# Altium integrated library Celestial Library.IntLib: 439 symbols (part 19 of 20)

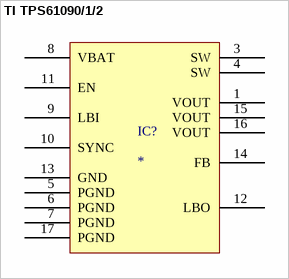
[diagram p414: symbol TI TPS61090/1/2]

## TI TPS61090/1/2
designator IC?
pins: 1 VOUT, 3 SW, 4 SW, 5 PGND, 6 PGND, 7 PGND, 8 VBAT, 9 LBI, 10 SYNC, 11 EN, 12 LBO, 13 GND, 14 FB, 15 VOUT, 16 VOUT, 17 PGND


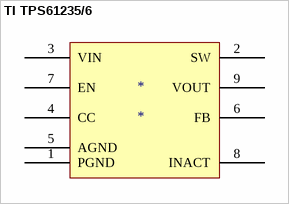
[diagram p415: symbol TI TPS61235/6]

## TI TPS61235/6
designator *
pins: 1 PGND, 2 SW, 3 VIN, 4 CC, 5 AGND, 6 FB, 7 EN, 8 INACT, 9 VOUT


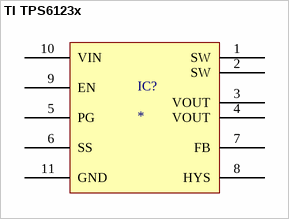
[diagram p416: symbol TI TPS6123x]

## TI TPS6123x
designator IC?
pins: 1 SW, 2 SW, 3 VOUT, 4 VOUT, 5 PG, 6 SS, 7 FB, 8 HYS, 9 EN, 10 VIN, 11 GND


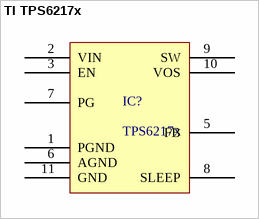
[diagram p417: symbol TI TPS6217x]

## TI TPS6217x
designator IC?, comment TPS6217x
pins: 1 PGND, 2 VIN, 3 EN, 5 FB, 6 AGND, 7 PG, 8 SLEEP, 9 SW, 10 VOS, 11 GND


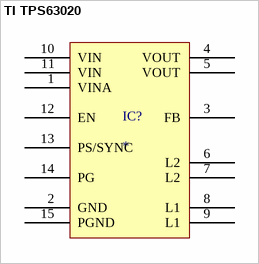
[diagram p418: symbol TI TPS63020]

## TI TPS63020
designator IC?
pins: 1 VINA, 2 GND, 3 FB, 4 VOUT, 5 VOUT, 6 L2, 7 L2, 8 L1, 9 L1, 10 VIN, 11 VIN, 12 EN, 13 PS/SYNC, 14 PG, 15 PGND


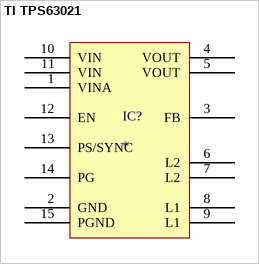
[diagram p419: symbol TI TPS63021]

## TI TPS63021
designator IC?
pins: 1 VINA, 2 GND, 3 FB, 4 VOUT, 5 VOUT, 6 L2, 7 L2, 8 L1, 9 L1, 10 VIN, 11 VIN, 12 EN, 13 PS/SYNC, 14 PG, 15 PGND


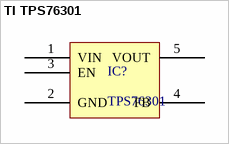
[diagram p420: symbol TI TPS76301]

## TI TPS76301
designator IC?, comment TPS76301
150mA Low-Dropout Regulator
pins: 1 VIN "Desc1", 2 GND "Desc1", 3 EN "Desc1", 4 FB "Desc1", 5 VOUT "Desc1"


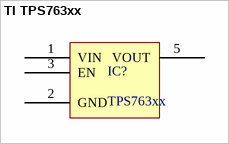
[diagram p421: symbol TI TPS763xx]

## TI TPS763xx
designator IC?, comment TPS763xx
150mA Low-Dropout Regulator
pins: 1 VIN "Desc1", 2 GND "Desc1", 3 EN "Desc1", 5 VOUT "Desc1"


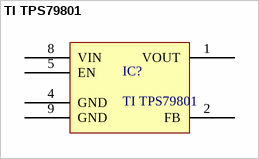
[diagram p422: symbol TI TPS79801]

## TI TPS79801
designator IC?
50 mA, 3 V TO 50 V, MICROPOWER, LOW-DROPOUT LINEAR REGULATOR
pins: 1 VOUT, 2 FB, 4 GND, 5 EN, 8 VIN, 9 GND


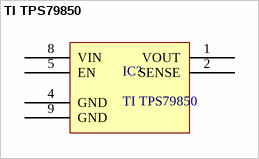
[diagram p423: symbol TI TPS79850]

## TI TPS79850
designator IC?
50 mA, 3 V TO 50 V, MICROPOWER, LOW-DROPOUT LINEAR REGULATOR
pins: 1 VOUT, 2 SENSE, 4 GND, 5 EN, 8 VIN, 9 GND


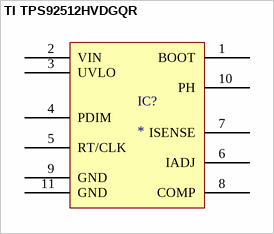
[diagram p424: symbol TI TPS92512HVDGQR]

## TI TPS92512HVDGQR
designator IC?
pins: 1 BOOT, 2 VIN, 3 UVLO, 4 PDIM, 5 RT/CLK, 6 IADJ, 7 ISENSE, 8 COMP, 9 GND, 10 PH, 11 GND


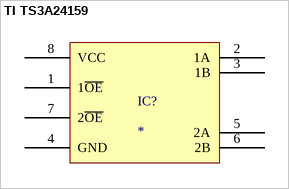
[diagram p425: symbol TI TS3A24159]

## TI TS3A24159
designator IC?
pins: 1 1~{OE}, 2 1A, 3 1B, 4 GND, 5 2A, 6 2B, 7 2~{OE}, 8 VCC


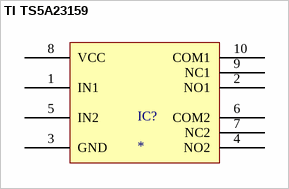
[diagram p426: symbol TI TS5A23159]

## TI TS5A23159
designator IC?
pins: 1 IN1, 2 NO1, 3 GND, 4 NO2, 5 IN2, 6 COM2, 7 NC2, 8 VCC, 9 NC1, 10 COM1


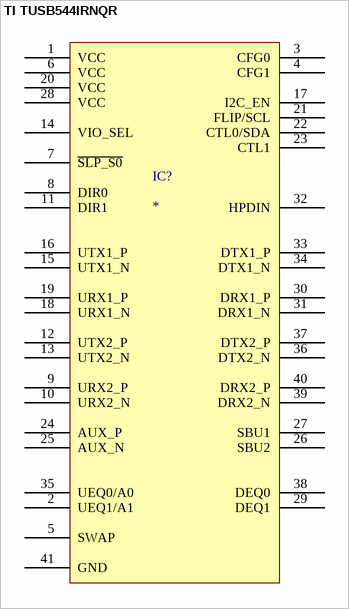
[diagram p427: symbol TI TUSB544IRNQR]

## TI TUSB544IRNQR
designator IC?
pins: 1 VCC, 2 UEQ1/A1, 3 CFG0, 4 CFG1, 5 SWAP, 6 VCC, 7 ~{SLP_S0}, 8 DIR0, 9 URX2_P, 10 URX2_N, 11 DIR1, 12 UTX2_P, 13 UTX2_N, 14 VIO_SEL, 15 UTX1_N, 16 UTX1_P, 17 I2C_EN, 18 URX1_N, 19 URX1_P, 20 VCC, 21 FLIP/SCL, 22 CTL0/SDA, 23 CTL1, 24 AUX_P, 25 AUX_N, 26 SBU2, 27 SBU1, 28 VCC, 29 DEQ1, 30 DRX1_P, 31 DRX1_N, 32 HPDIN, 33 DTX1_P, 34 DTX1_N, 35 UEQ0/A0, 36 DTX2_N, 37 DTX2_P, 38 DEQ0, 39 DRX2_N, 40 DRX2_P, 41 GND


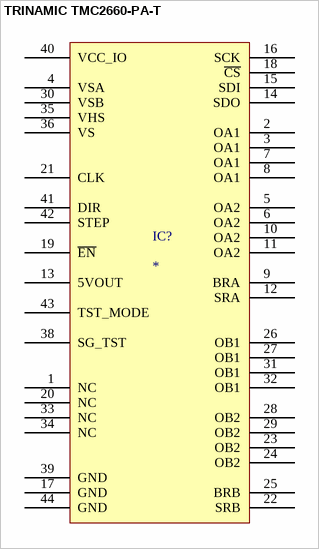
[diagram p428: symbol TRINAMIC TMC2660-PA-T]

## TRINAMIC TMC2660-PA-T
designator IC?
pins: 1 NC, 2 OA1, 3 OA1, 4 VSA, 5 OA2, 6 OA2, 7 OA1, 8 OA1, 9 BRA, 10 OA2, 11 OA2, 12 SRA, 13 5VOUT, 14 SDO, 15 SDI, 16 SCK, 17 GND, 18 ~{CS}, 19 ~{EN}, 20 NC, 21 CLK, 22 SRB, 23 OB2, 24 OB2, 25 BRB, 26 OB1, 27 OB1, 28 OB2, 29 OB2, 30 VSB, 31 OB1, 32 OB1, 33 NC, 34 NC, 35 VHS, 36 VS, 38 SG_TST, 39 GND, 40 VCC_IO, 41 DIR, 42 STEP, 43 TST_MODE, 44 GND


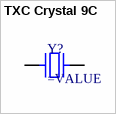
[diagram p429: symbol TXC Crystal 9C]

## TXC Crystal 9C
designator Y?
SMT Crystal
pins: 1, 2


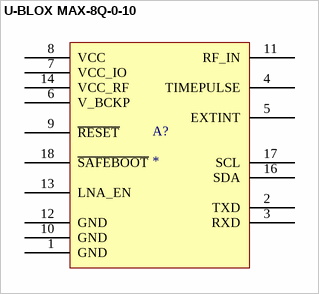
[diagram p430: symbol U-BLOX MAX-8Q-0-10]

## U-BLOX MAX-8Q-0-10
designator A?
pins: 1 GND, 2 TXD, 3 RXD, 4 TIMEPULSE, 5 EXTINT, 6 V_BCKP, 7 VCC_IO, 8 VCC, 9 ~{RESET}, 10 GND, 11 RF_IN, 12 GND, 13 LNA_EN, 14 VCC_RF, 16 SDA, 17 SCL, 18 ~{SAFEBOOT}


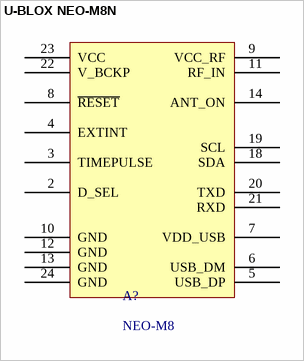
[diagram p431: symbol U-BLOX NEO-M8N]

## U-BLOX NEO-M8N
designator A?, comment NEO-M8
u-blox NEO GPS Module
pins: 2 D_SEL, 3 TIMEPULSE, 4 EXTINT, 5 USB_DP, 6 USB_DM, 7 VDD_USB, 8 ~{RESET}, 9 VCC_RF, 10 GND, 11 RF_IN, 12 GND, 13 GND, 14 ANT_ON, 18 SDA, 19 SCL, 20 TXD, 21 RXD, 22 V_BCKP, 23 VCC, 24 GND


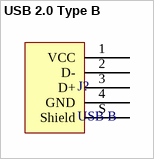
[diagram p432: symbol USB 2.0 Type B]

## USB 2.0 Type B
designator J?, comment USB B
pins: 1 VCC, 2 D-, 3 D+, 4 GND, S Shield


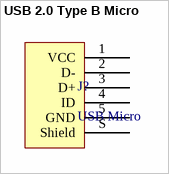
[diagram p433: symbol USB 2.0 Type B Micro]

## USB 2.0 Type B Micro
designator J?, comment USB Micro
pins: 1 VCC, 2 D-, 3 D+, 4 ID, 5 GND, S Shield


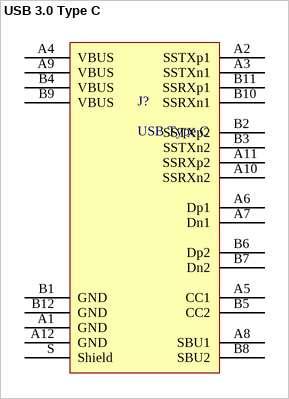
[diagram p434: symbol USB 3.0 Type C]

## USB 3.0 Type C
designator J?, comment USB Type C
pins: A1 GND, A2 SSTXp1, A3 SSTXn1, A4 VBUS, A5 CC1, A6 Dp1, A7 Dn1, A8 SBU1, A9 VBUS, A10 SSRXn2, A11 SSRXp2, A12 GND, B1 GND, B2 SSTXp2, B3 SSTXn2, B4 VBUS, B5 CC2, B6 Dp2, B7 Dn2, B8 SBU2, B9 VBUS, B10 SSRXn1, B11 SSRXp1, B12 GND, S Shield


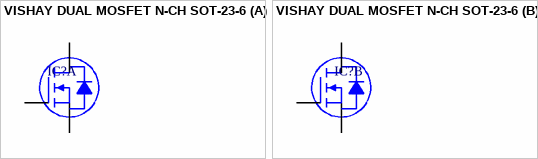
[diagram p435: symbol VISHAY DUAL MOSFET N-CH SOT-23-6]

## VISHAY DUAL MOSFET N-CH SOT-23-6
designator IC?
part A pins: 1 G1, 5 S1, 6 D1
part B pins: 2 S2, 3 G2, 4 D2


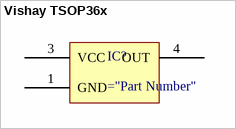
[diagram p436: symbol Vishay TSOP36x]

## Vishay TSOP36x
designator IC?
pins: 1 GND, 3 VCC, 4 OUT
